# EAGLE library part LTC3252 (library PowerProducts)
LT-Spice library generated with : ltspice.ulp from: D:/Program Files (x86)/LTC/LTspiceIV/lib/sym/PowerProducts/LTC3400-1*.asy at 07.10.2012 18:01:11
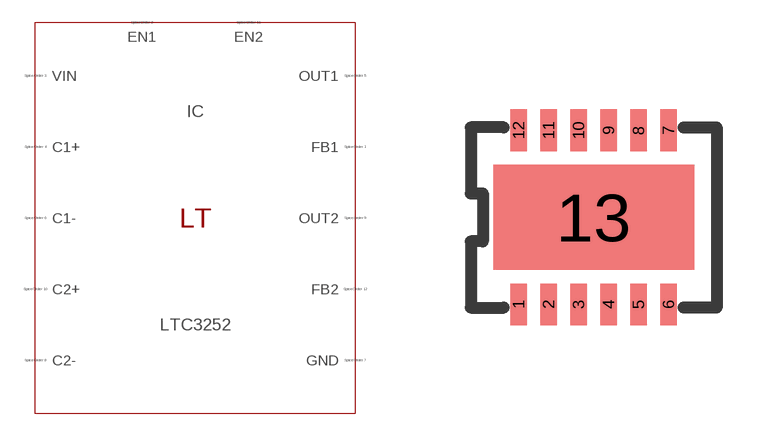
[diagram p155: symbol with the pads of DFN12(DE); footprint DFN12(DE)]

Designator prefix IC

## LTC3252 (SPICEMODEL: LTC3252.sub; SPICEPREFIX: X; VALUE2: LTC3252)  [DFN12(DE)]
1  FB1  pas
2  EN1  pas
3  VIN  pas
4  C1+  pas
5  OUT1  pas
6  C1-  pas
7  GND  pas
8  C2-  pas
9  OUT2  pas
10  C2+  pas
11  EN2  pas
12  FB2  pas
13  GND  pas

## Footprint DFN12(DE) (pad centres in mm)
Package generated from: DFN12(DE).asc (!PADS-POWERPCB-V5.0-BASIC! DESIGN DATABASE ASCII FILE 1.0) with :import-pads-powerpcb-v5.ulp Version 1.0.1 at 04.10.2012 14:11:16
smd 0.42 x 1.05: 1 -1.875,-2.175; 2 -1.125,-2.175; 3 -0.375,-2.175; 4 0.375,-2.175; 5 1.125,-2.175; 6 1.875,-2.175; 7 1.875,2.175; 8 1.125,2.175; 9 0.375,2.175; 10 -0.375,2.175; 11 -1.125,2.175; 12 -1.875,2.175
smd 5.025 x 2.625: 13 0,0